# EAGLE library part BT_HC05 (library Richard_Boards)
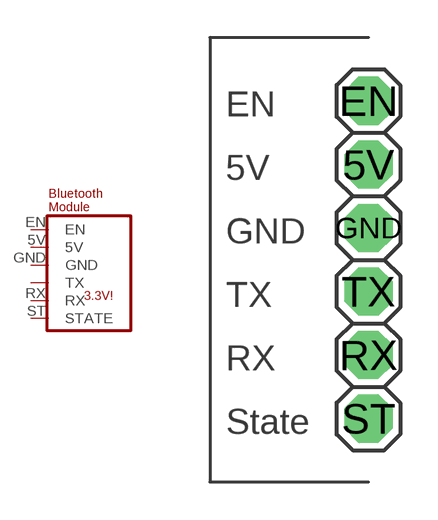
[diagram p8: symbol with the pads of BT_HC05; footprint BT_HC05]

Designator prefix -

## BT_HC05  [BT_HC05]
5V  5V  pas
EN  EN  pas
GND  GND  pas
RX  RX  pas
ST  STATE  pas
TX  TX  pas

## Footprint BT_HC05 (pad centres in mm)
PIN HEADER
drill 1.016 pad 1.93 octagon: 5V 0,3.81; EN 0,6.35; GND 0,1.27; RX 0,-3.81; ST 0,-6.35; TX 0,-1.27